# Altium schematic symbol library MICRON-MT28F004B3VG-8T.schlib: 1 symbol
Pins are listed as number, name and electrical type; pins without a type are passive.

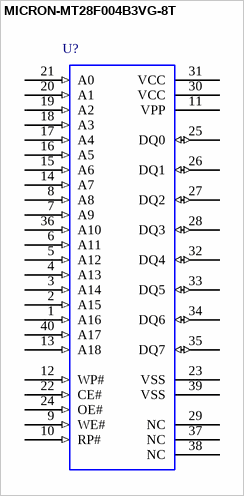
[diagram p0: symbol MICRON-MT28F004B3VG-8T]

## MICRON-MT28F004B3VG-8T
designator U?  (value not drawn)
4Mb SMART 3 BOOT BLOCK FLASH MEMORY; CircuitryPartsPN: MICRON-MT28F004B3VG-8T; ManufacturerPN: MT28F004B3VG-8T; Manufacturer: Micron Technology Inc; CategoryI: Integrated Circuits (ICs); CategoryII: NOR FLASH MEMORY; SchematicRev: A; DesignedBy: Circuitry Parts; MfgURL: http://www.micron.com/; PackageName: TSOP40; FootprintName: *; Value: *; DesignedOn: 7/18/2005 3:14:28 PM
pins: 1 A16 (in), 2 A15 (in), 3 A14 (in), 4 A13 (in), 5 A12 (in), 6 A11 (in), 7 A9 (in), 8 A8 (in), 9 WE# (in), 10 RP# (in), 11 VPP (power), 12 WP# (in), 13 A18 (in), 14 A7 (in), 15 A6 (in), 16 A5 (in), 17 A4 (in), 18 A3 (in), 19 A2 (in), 20 A1 (in), 21 A0 (in), 22 CE# (in), 23 VSS (power), 24 OE# (in), 25 DQ0 (io), 26 DQ1 (io), 27 DQ2 (io), 28 DQ3 (io), 29 NC, 30 VCC (power), 31 VCC (power), 32 DQ4 (io), 33 DQ5 (io), 34 DQ6 (io), 35 DQ7 (io), 36 A10 (in), 37 NC, 38 NC, 39 VSS (power), 40 A17 (in)